# Altium integrated library 2-1622819-7.IntLib: 1 symbol
Pins are listed as number, name and electrical type; pins without a type are passive.

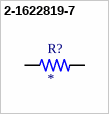
[diagram p0: symbol 2-1622819-7]

## 2-1622819-7
designator R?
RES ARRAY 4 RES 10K OHM 1206; Power_Rating: .063 W; MF: TE Connectivity; MP: 2-1622819-7; Voltage_Rating: 50 V; Tolerance: 1%; SnapEDA_Link: https://www.snapeda.com/parts/2-1622819-7/TE+Connectivity/view-part/?ref=snap; Package: 0603; Resistance: 10K; Value: *; EU_RoHS_Compliance: Compliant; Check_prices: https://www.snapeda.com/parts/2-1622819-7/TE+Connectivity/view-part/?ref=eda
footprint RESC1608X50N
pins: 1, 2